# Altium footprint library ST3232BTR.PcbLib: 1 footprints
Each footprint in its own frame and in the unit in brackets; x right, y up, seen from the top. Pads: shape width x height; smd on the part's side, far side on the other; paste and mask are expansions set on the pad; w line width, h text height; cw(c..) or ccw(c..) is an arc to the next point about the centre after c.
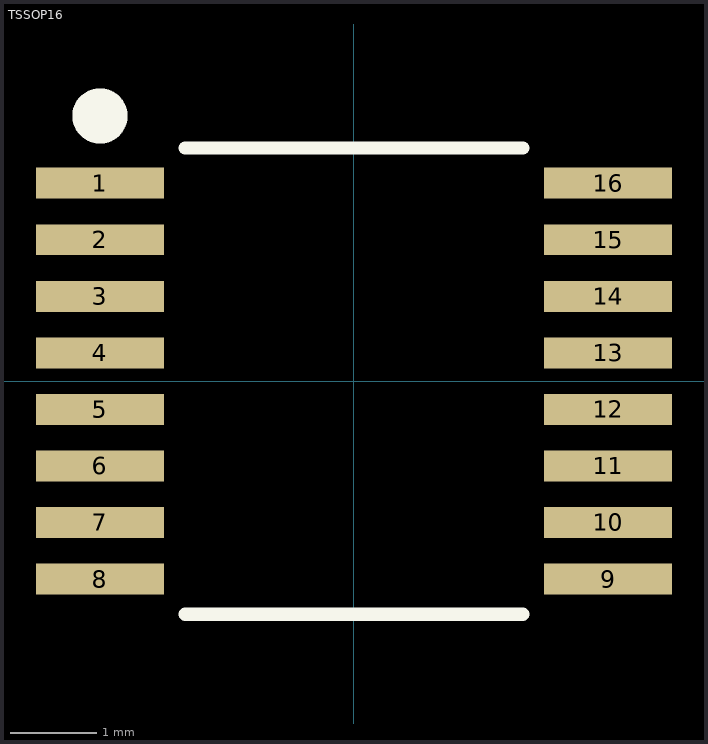
[diagram p0: the footprint, top view; thin cyan lines are the x and y axes]

## TSSOP16 [mil]
pads (16):
  rect 58x14 smd paste+0 mask+0: 1(-115,89.57) 2(-115,63.98) 3(-115,38.39) 4(-115,12.8) 5(-115,-12.8) 6(-115,-38.39) 7(-115,-63.98) 8(-115,-89.57) 9(115,-89.57) 10(115,-63.98) 11(115,-38.39) 12(115,-12.8) 13(115,12.8) 14(115,38.39) 15(115,63.98) 16(115,89.57)
Top Overlay:
  circle w15: c-115,120 r5
  lines w6: -76.42,-105.5 76.42,-105.5 ; -76.42,105.5 76.42,105.5
3D body "TSSOP16.step": height 47.09, standoff 0, extent -129.99,-100.5 130.01,100.52
3D body: height 10, standoff 0, extent 0,0 10,10